# Altium integrated library 数码管.IntLib: 94 symbols
Pins are listed as number, name and electrical type; pins without a type are passive.

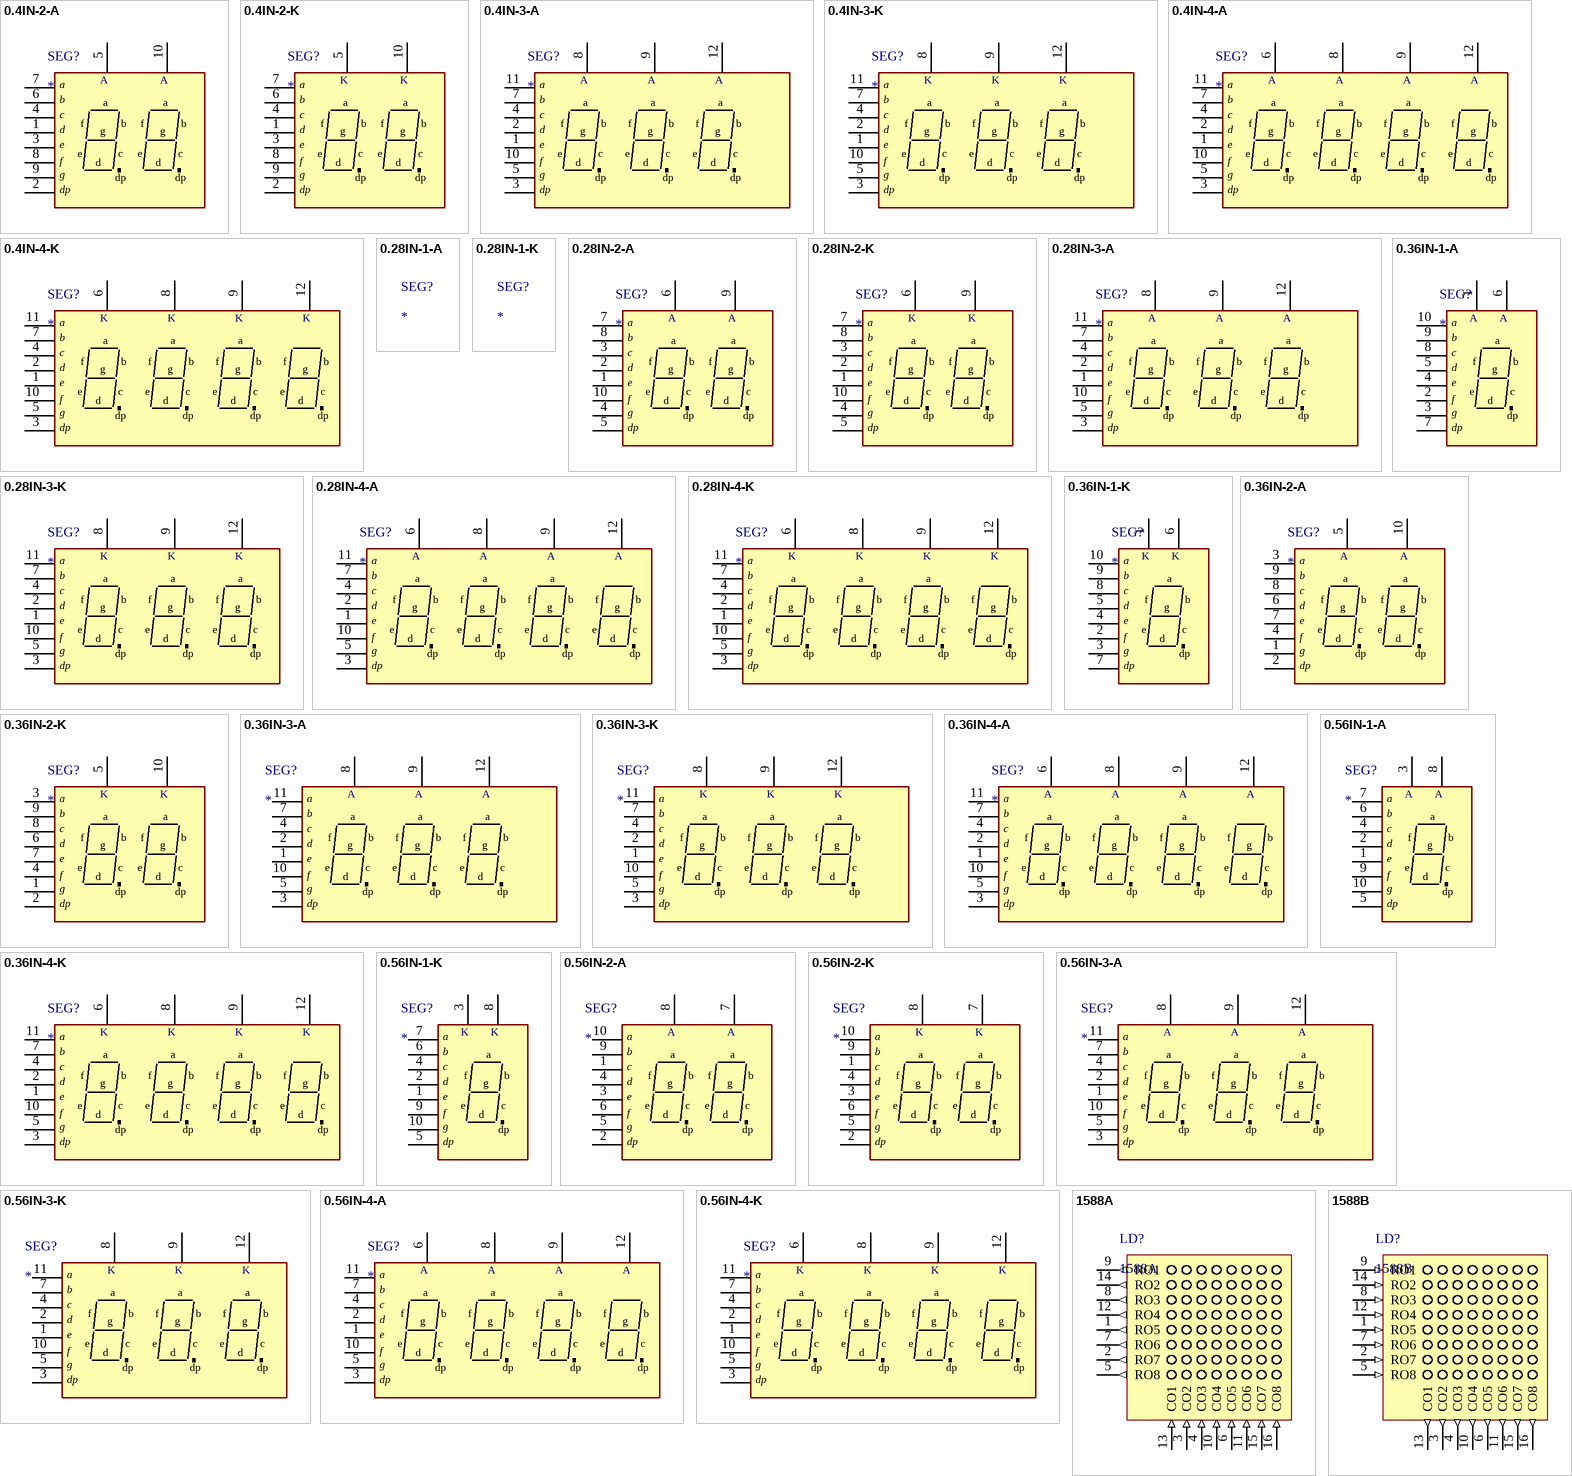
[diagram p0: symbols 0.4IN-2-A to 1588B]

## 0.4IN-2-A
designator SEG?
2位0.4寸共阳数码管
footprint 0.4IN-2P
pins: 1, 2, 3, 4, 5, 6, 7, 8, 9, 10
text: A; a; b; c; f; d; g; e; dp

## 0.4IN-2-K
designator SEG?
2位0.4寸共阴数码管
footprint 0.4IN-2P
pins: 1, 2, 3, 4, 5, 6, 7, 8, 9, 10
text: K; a; b; c; f; d; g; e; dp

## 0.4IN-3-A
designator SEG?
3位0.4寸共阳数码管
footprint 0.4IN-3P
footprint Model Name (Model Description)
pins: 1, 2, 3, 4, 5, 7, 8, 9, 10, 11, 12
text: A; a; b; c; f; d; g; e; dp

## 0.4IN-3-K
designator SEG?
3位0.4寸共阴数码管
footprint 0.4IN-3P
pins: 1, 2, 3, 4, 5, 7, 8, 9, 10, 11, 12
text: K; a; b; c; f; d; g; e; dp

## 0.4IN-4-A
designator SEG?
4位0.4寸共阳数码管
footprint 0.4IN-4P
pins: 1, 2, 3, 4, 5, 6, 7, 8, 9, 10, 11, 12
text: A; a; b; c; f; d; g; e; dp

## 0.4IN-4-K
designator SEG?
4位0.4寸共阴数码管
footprint 0.4IN-4P
pins: 1, 2, 3, 4, 5, 6, 7, 8, 9, 10, 11, 12
text: K; a; b; c; f; d; g; e; dp

## 0.28IN-1-A
designator SEG?
1位0.28寸共阳数码管

## 0.28IN-1-K
designator SEG?
1位0.28寸共阴数码管

## 0.28IN-2-A
designator SEG?
2位0.28寸共阳数码管
footprint Model Name (Model Description)
pins: 1, 2, 3, 4, 5, 6, 7, 8, 9, 10
text: A; a; b; c; f; d; g; e; dp

## 0.28IN-2-K
designator SEG?
2位0.28寸共阴数码管
pins: 1, 2, 3, 4, 5, 6, 7, 8, 9, 10
text: K; a; b; c; f; d; g; e; dp

## 0.28IN-3-A
designator SEG?
3位0.28寸共阳数码管
pins: 1, 2, 3, 4, 5, 7, 8, 9, 10, 11, 12
text: A; a; b; c; f; d; g; e; dp

## 0.28IN-3-K
designator SEG?
3位0.28寸共阴数码管
pins: 1, 2, 3, 4, 5, 7, 8, 9, 10, 11, 12
text: K; a; b; c; f; d; g; e; dp

## 0.28IN-4-A
designator SEG?
4位0.28寸共阳数码管
pins: 1, 2, 3, 4, 5, 6, 7, 8, 9, 10, 11, 12
text: A; a; b; c; f; d; g; e; dp

## 0.28IN-4-K
designator SEG?
4位0.28寸共阴数码管
pins: 1, 2, 3, 4, 5, 6, 7, 8, 9, 10, 11, 12
text: K; a; b; c; f; d; g; e; dp

## 0.36IN-1-A
designator SEG?
1位0.36寸共阳数码管
footprint 0.36IN-1P
pins: 1, 2, 3, 4, 5, 6, 7, 8, 9, 10
text: A; a; b; c; f; d; g; e; dp

## 0.36IN-1-K
designator SEG?
1位0.36寸共阴数码管
footprint 0.36IN-1P
pins: 1, 2, 3, 4, 5, 6, 7, 8, 9, 10
text: K; a; b; c; f; d; g; e; dp

## 0.36IN-2-A
designator SEG?
2位0.36寸共阳数码管
footprint 0.36IN-2P
pins: 1, 2, 3, 4, 5, 6, 7, 8, 9, 10
text: A; a; b; c; f; d; g; e; dp

## 0.36IN-2-K
designator SEG?
2位0.36寸共阴数码管
footprint 0.36IN-2P
pins: 1, 2, 3, 4, 5, 6, 7, 8, 9, 10
text: K; a; b; c; f; d; g; e; dp

## 0.36IN-3-A
designator SEG?
3位0.36寸共阳数码管
footprint 0.36IN-3P
pins: 1, 2, 3, 4, 5, 7, 8, 9, 10, 11, 12
text: A; a; b; c; f; d; g; e; dp

## 0.36IN-3-K
designator SEG?
3位0.36寸共阴数码管
footprint 0.36IN-3P
pins: 1, 2, 3, 4, 5, 7, 8, 9, 10, 11, 12
text: K; a; b; c; f; d; g; e; dp

## 0.36IN-4-A
designator SEG?
4位0.36寸共阳数码管
footprint 0.36IN-4P
pins: 1, 2, 3, 4, 5, 6, 7, 8, 9, 10, 11, 12
text: A; a; b; c; f; d; g; e; dp

## 0.36IN-4-K
designator SEG?
4位0.36寸共阴数码管
footprint 0.36IN-4P
pins: 1, 2, 3, 4, 5, 6, 7, 8, 9, 10, 11, 12
text: K; a; b; c; f; d; g; e; dp

## 0.56IN-1-A
designator SEG?
1位0.56寸共阳数码管
footprint 0.56IN-1P
pins: 1, 2, 3 VCC, 4, 5, 6, 7, 8, 9, 10
text: A; a; b; c; f; d; g; e; dp

## 0.56IN-1-K
designator SEG?
1位0.56寸共阴数码管
footprint 0.56IN-1P
pins: 1, 2, 3 VCC, 4, 5, 6, 7, 8, 9, 10
text: K; a; b; c; f; d; g; e; dp

## 0.56IN-2-A
designator SEG?
2位0.56寸共阳数码管
footprint 0.56IN-2P
pins: 1, 2, 3, 4, 5, 6, 7, 8, 9, 10
text: A; a; b; c; f; d; g; e; dp

## 0.56IN-2-K
designator SEG?
2位0.56寸共阴数码管
footprint 0.56IN-2P
pins: 1, 2, 3, 4, 5, 6, 7, 8, 9, 10
text: K; a; b; c; f; d; g; e; dp

## 0.56IN-3-A
designator SEG?
3位0.56寸共阳数码管
footprint 0.56IN-3P
pins: 1, 2, 3, 4, 5, 7, 8, 9, 10, 11, 12
text: A; a; b; c; f; d; g; e; dp

## 0.56IN-3-K
designator SEG?
3位0.56寸共阴数码管
footprint 0.56IN-3P
pins: 1, 2, 3, 4, 5, 7, 8, 9, 10, 11, 12
text: K; a; b; c; f; d; g; e; dp

## 0.56IN-4-A
designator SEG?
4位0.56寸共阳数码管
footprint 0.56IN-4P
pins: 1, 2, 3, 4, 5, 6, 7, 8, 9, 10, 11, 12
text: A; a; b; c; f; d; g; e; dp

## 0.56IN-4-K
designator SEG?
4位0.56寸共阴数码管
footprint 0.56IN-4P
pins: 1, 2, 3, 4, 5, 6, 7, 8, 9, 10, 11, 12
text: K; a; b; c; f; d; g; e; dp

## 1588A
designator LD?
共阴单色LED8*8点阵屏; 版权归属: 源创客; BOM名称: 共阴单色LED8*8点阵屏; 学习资源: www.ooocke.com
footprint LED 8*8-38 (单色8*8点阵，38mm*38mm)
pins: 1 RO5 (out), 2 RO7 (out), 3 CO2 (in), 4 CO3 (in), 5 RO8 (out), 6 CO5 (in), 7 RO6 (out), 8 RO3 (out), 9 RO1 (out), 10 CO4 (in), 11 CO6 (in), 12 RO4 (out), 13 CO1 (in), 14 RO2 (out), 15 CO7 (in), 16 CO8 (in)

## 1588B
designator LD?
共阳单色LED8*8点阵屏; 版权归属: 源创客; BOM名称: 共阳单色LED8*8点阵屏; 学习资源: www.ooocke.com
footprint LED 8*8-38 (单色8*8点阵，38mm*38mm)
pins: 1 RO5 (in), 2 RO7 (in), 3 CO2 (out), 4 CO3 (out), 5 RO8 (in), 6 CO5 (out), 7 RO6 (in), 8 RO3 (in), 9 RO1 (in), 10 CO4 (out), 11 CO6 (out), 12 RO4 (in), 13 CO1 (out), 14 RO2 (in), 15 CO7 (out), 16 CO8 (out)

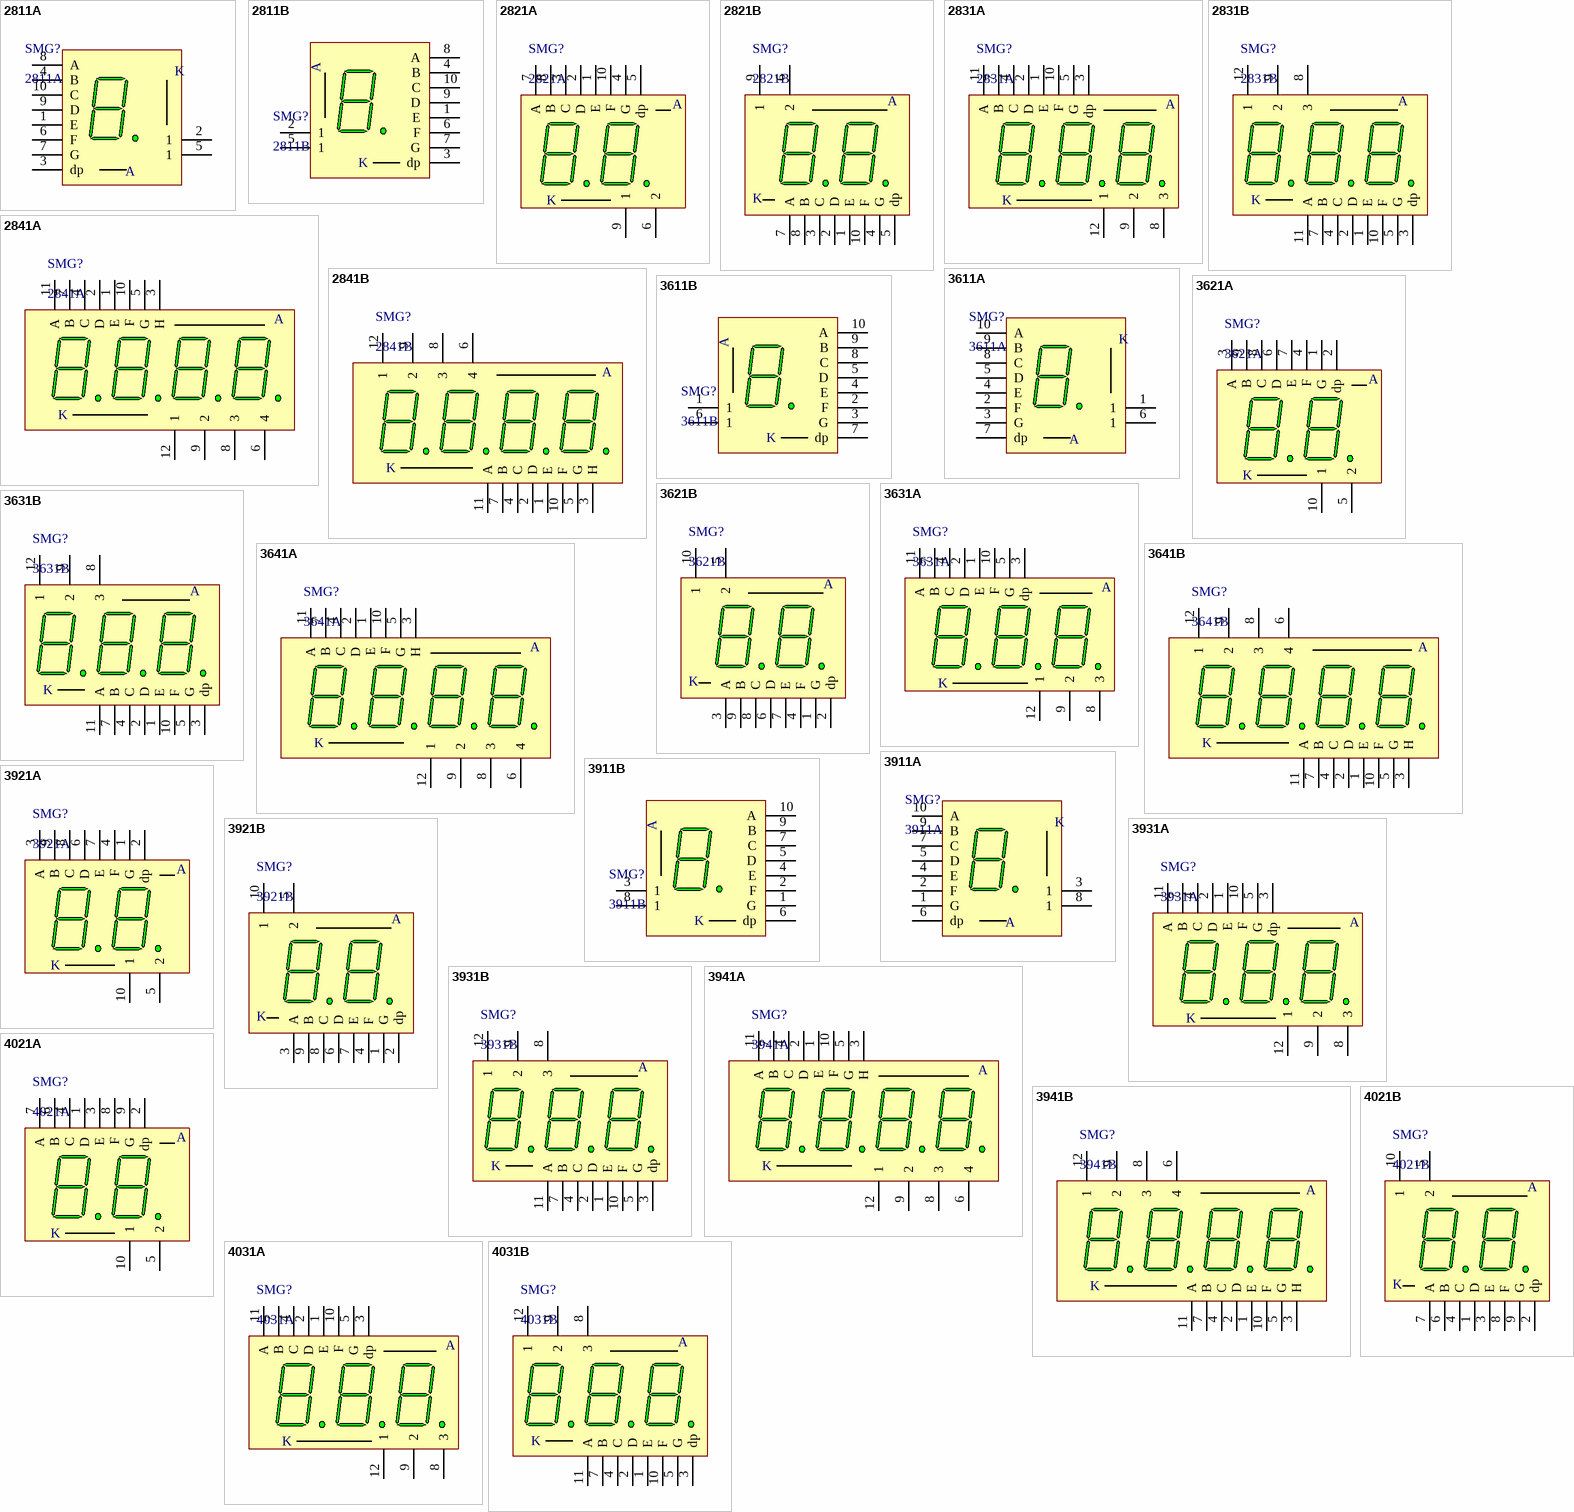
[diagram p1: symbols 2811A to 4031B]

## 2811A
designator SMG?
0.28寸1位共阴数码管; 版权归属: 源创客; BOM名称: 0.28寸1位共阴; 学习资源: www.ooocke.com
footprint SMG 0.28-1P_A (7.4*10*6mm(长宽高))
pins: 1 E "Anode", 2 1 "Cathode", 3 dp "Anode", 4 B "Anode", 5 1 "Anode", 6 F "Anode", 7 G "Anode", 8 A "Anode", 9 D "Anode", 10 C "Anode"
text: K

## 2811B
designator SMG?
0.28寸1位共阳数码管; 版权归属: 源创客; BOM名称: 0.28寸1位共阳; 学习资源: www.ooocke.com
footprint SMG 0.28-1P_A (7.4*10*6mm(长宽高))
pins: 1 E "Anode", 2 1 "Cathode", 3 dp "Anode", 4 B "Anode", 5 1 "Anode", 6 F "Anode", 7 G "Anode", 8 A "Anode", 9 D "Anode", 10 C "Anode"
text: K

## 2821A
designator SMG?
0.28寸2位共阴数码管; 版权归属: 源创客; BOM名称: 0.28寸2位共阴; 学习资源: www.ooocke.com
footprint SMG 0.28-2P (15*10*6mm(长宽厚))
pins: 1 E "Anode", 2 D "Anode", 3 C "Anode", 4 G "Anode", 5 dp "Anode", 6 2 "Anode", 7 A "Anode", 8 B "Anode", 9 1 "Cathode", 10 F "Anode"
text: K

## 2821B
designator SMG?
0.28寸2位共阳数码管; 版权归属: 源创客; BOM名称: 0.28寸2位共阳; 学习资源: www.ooocke.com
footprint SMG 0.28-2P (15*10*6mm(长宽厚))
pins: 1 E "Anode", 2 D "Anode", 3 C "Anode", 4 G "Anode", 5 dp "Anode", 6 2 "Anode", 7 A "Anode", 8 B "Anode", 9 1 "Cathode", 10 F "Anode"
text: K

## 2831A
designator SMG?
0.28寸3位共阴数码管; 版权归属: 源创客; BOM名称: 0.28寸3位共阴; 学习资源: www.ooocke.com
footprint SMG 0.28-3P (22.58*10*6mm(长宽厚))
pins: 1 E "Anode", 2 D "Anode", 3 dp "Anode", 4 C "Anode", 5 G "Anode", 7 B "Anode", 8 3 "Anode", 9 2 "Anode", 10 F "Anode", 11 A "Anode", 12 1 "Cathode"
text: K

## 2831B
designator SMG?
0.28寸3位共阳数码管; 版权归属: 源创客; BOM名称: 0.28寸3位共阳; 学习资源: www.ooocke.com
footprint SMG 0.28-3P (22.58*10*6mm(长宽厚))
pins: 1 E "Anode", 2 D "Anode", 3 dp "Anode", 4 C "Anode", 5 G "Anode", 7 B "Anode", 8 3 "Anode", 9 2 "Anode", 10 F "Anode", 11 A "Anode", 12 1 "Cathode"
text: K

## 2841A
designator SMG?
0.28寸4位共阴数码管; 版权归属: 源创客; BOM名称: 0.28寸4位共阴; 学习资源: www.ooocke.com
footprint SMG 0.28-4P_B (32.2*10*6mm(长宽厚))
pins: 1 E "Anode", 2 D "Anode", 3 H "Anode", 4 C "Anode", 5 G "Anode", 6 4 "Cathode", 7 B "Anode", 8 3 "Anode", 9 2 "Anode", 10 F "Anode", 11 A "Anode", 12 1 "Cathode"
text: K

## 2841B
designator SMG?
0.28寸4位共阳数码管; 版权归属: 源创客; BOM名称: 0.28寸4位共阳; 学习资源: www.ooocke.com
footprint SMG 0.28-4P_B (32.2*10*6mm(长宽厚))
pins: 1 E "Anode", 2 D "Anode", 3 H "Anode", 4 C "Anode", 5 G "Anode", 6 4 "Cathode", 7 B "Anode", 8 3 "Anode", 9 2 "Anode", 10 F "Anode", 11 A "Anode", 12 1 "Cathode"
text: K

## 3611A
designator SMG?
0.36寸1位共阴数码管; 版权归属: 源创客; BOM名称: 0.36寸1位共阴; 学习资源: www.ooocke.com
footprint SMG 0.36-1P (7.5*14*8.5mm(长宽厚))
pins: 1 "Cathode", 2 F "Anode", 3 G "Anode", 4 E "Anode", 5 D "Anode", 6 1 "Anode", 7 dp "Anode", 8 C "Anode", 9 B "Anode", 10 A "Anode"
text: K

## 3611B
designator SMG?
0.36寸1位共阳数码管; 版权归属: 源创客; BOM名称: 0.36寸1位共阳; 学习资源: www.ooocke.com
footprint SMG 0.36-1P (7.5*14*8.5mm(长宽厚))
pins: 1 "Cathode", 2 F "Anode", 3 G "Anode", 4 E "Anode", 5 D "Anode", 6 1 "Anode", 7 dp "Anode", 8 C "Anode", 9 B "Anode", 10 A "Anode"
text: K

## 3621A
designator SMG?
0.36寸2位共阴数码管; 版权归属: 源创客; BOM名称: 0.36寸2位共阴; 学习资源: www.ooocke.com
footprint SMG 0.36-2P (15*14*7.2mm(长宽厚))
pins: 1 G "Anode", 2 dp "Anode", 3 A "Anode", 4 F "Anode", 5 2 "Anode", 6 D "Anode", 7 E "Anode", 8 C "Anode", 9 B "Anode", 10 1 "Cathode"
text: K

## 3621B
designator SMG?
0.36寸2位共阳数码管; 版权归属: 源创客; BOM名称: 0.36寸2位共阳; 学习资源: www.ooocke.com
footprint SMG 0.36-2P (15*14*7.2mm(长宽厚))
pins: 1 G "Anode", 2 dp "Anode", 3 A "Anode", 4 F "Anode", 5 2 "Anode", 6 D "Anode", 7 E "Anode", 8 C "Anode", 9 B "Anode", 10 1 "Cathode"
text: K

## 3631A
designator SMG?
0.36寸3位共阴数码管; 版权归属: 源创客; BOM名称: 0.36寸3位共阴; 学习资源: www.ooocke.com
footprint SMG 0.36-3P (3位0.36寸数码管，22.5*14mm)
pins: 1 E "Anode", 2 D "Anode", 3 dp "Anode", 4 C "Anode", 5 G "Anode", 7 B "Anode", 8 3 "Anode", 9 2 "Anode", 10 F "Anode", 11 A "Anode", 12 1 "Cathode"
text: K

## 3631B
designator SMG?
0.36寸3位共阳数码管; 版权归属: 源创客; BOM名称: 0.36寸3位共阳; 学习资源: www.ooocke.com
footprint SMG 0.36-3P (22.5*14*7.2mm(长宽厚))
pins: 1 E "Anode", 2 D "Anode", 3 dp "Anode", 4 C "Anode", 5 G "Anode", 7 B "Anode", 8 3 "Anode", 9 2 "Anode", 10 F "Anode", 11 A "Anode", 12 1 "Cathode"
text: K

## 3641A
designator SMG?
0.36寸4位共阴数码管; 版权归属: 源创客; BOM名称: 0.36寸4位共阴; 学习资源: www.ooocke.com
footprint SMG 0.36-4P (4位0.36寸数码管，30*14*7.2mm)
pins: 1 E "Anode", 2 D "Anode", 3 H "Anode", 4 C "Anode", 5 G "Anode", 6 4 "Cathode", 7 B "Anode", 8 3 "Anode", 9 2 "Anode", 10 F "Anode", 11 A "Anode", 12 1 "Cathode"
text: K

## 3641B
designator SMG?
0.36寸4位共阳数码管; 版权归属: 源创客; BOM名称: 0.36寸4位共阳; 学习资源: www.ooocke.com
footprint SMG 0.36-4P (4位0.36寸数码管，30*14*7.2mm)
pins: 1 E "Anode", 2 D "Anode", 3 H "Anode", 4 C "Anode", 5 G "Anode", 6 4 "Cathode", 7 B "Anode", 8 3 "Anode", 9 2 "Anode", 10 F "Anode", 11 A "Anode", 12 1 "Cathode"
text: K

## 3911A
designator SMG?
0.39寸1位共阴数码管; 版权归属: 源创客; BOM名称: 0.39寸1位共阴; 学习资源: www.ooocke.com
footprint SMG 0.39-1P (0.39寸数码管，13*10mm)
pins: 1 G "Anode", 2 F "Anode", 3 1 "Cathode", 4 E "Anode", 5 D "Anode", 6 dp "Anode", 7 C "Anode", 8 1 "Anode", 9 B "Anode", 10 A "Anode"
text: K

## 3911B
designator SMG?
0.39寸1位共阳数码管; 版权归属: 源创客; BOM名称: 0.39寸1位共阳; 学习资源: www.ooocke.com
footprint SMG 0.39-1P (0.39寸数码管，13*10mm)
pins: 1 G "Anode", 2 F "Anode", 3 1 "Cathode", 4 E "Anode", 5 D "Anode", 6 dp "Anode", 7 C "Anode", 8 1 "Anode", 9 B "Anode", 10 A "Anode"
text: K

## 3921A
designator SMG?
0.39寸2位共阴数码管; 版权归属: 源创客; BOM名称: 0.39寸2位共阴; 学习资源: www.ooocke.com
footprint SMG 0.36-2P (15*14*7.2mm(长宽厚))
pins: 1 G "Anode", 2 dp "Anode", 3 A "Anode", 4 F "Anode", 5 2 "Anode", 6 D "Anode", 7 E "Anode", 8 C "Anode", 9 B "Anode", 10 1 "Cathode"
text: K

## 3921B
designator SMG?
0.39寸2位共阳数码管; 版权归属: 源创客; BOM名称: 0.39寸2位共阳; 学习资源: www.ooocke.com
footprint SMG 0.36-2P (15*14*7.2mm(长宽厚))
pins: 1 G "Anode", 2 dp "Anode", 3 A "Anode", 4 F "Anode", 5 2 "Anode", 6 D "Anode", 7 E "Anode", 8 C "Anode", 9 B "Anode", 10 1 "Cathode"
text: K

## 3931A
designator SMG?
0.39寸3位共阴数码管; 版权归属: 源创客; BOM名称: 0.39寸3位共阴; 学习资源: www.ooocke.com
footprint SMG 0.39-3P (30.2*13*7mm(长宽厚))
pins: 1 E "Anode", 2 D "Anode", 3 dp "Anode", 4 C "Anode", 5 G "Anode", 7 B "Anode", 8 3 "Anode", 9 2 "Anode", 10 F "Anode", 11 A "Anode", 12 1 "Cathode"
text: K

## 3931B
designator SMG?
0.39寸3位共阳数码管; 版权归属: 源创客; BOM名称: 0.39寸3位共阳; 学习资源: www.ooocke.com
footprint SMG 0.39-3P (30.2*13*7mm(长宽厚))
pins: 1 E "Anode", 2 D "Anode", 3 dp "Anode", 4 C "Anode", 5 G "Anode", 7 B "Anode", 8 3 "Anode", 9 2 "Anode", 10 F "Anode", 11 A "Anode", 12 1 "Cathode"
text: K

## 3941A
designator SMG?
0.36寸4位共阴数码管; 版权归属: 源创客; BOM名称: 0.36寸4位共阴; 学习资源: www.ooocke.com
footprint SMG 0.39-4P_A (40.2*13*7mm(长宽厚))
pins: 1 E "Anode", 2 D "Anode", 3 H "Anode", 4 C "Anode", 5 G "Anode", 6 4 "Cathode", 7 B "Anode", 8 3 "Anode", 9 2 "Anode", 10 F "Anode", 11 A "Anode", 12 1 "Cathode"
text: K

## 3941B
designator SMG?
0.36寸4位共阳数码管; 版权归属: 源创客; BOM名称: 0.36寸4位共阳; 学习资源: www.ooocke.com
footprint SMG 0.39-4P_A (40.2*13*7mm(长宽厚))
pins: 1 E "Anode", 2 D "Anode", 3 H "Anode", 4 C "Anode", 5 G "Anode", 6 4 "Cathode", 7 B "Anode", 8 3 "Anode", 9 2 "Anode", 10 F "Anode", 11 A "Anode", 12 1 "Cathode"
text: K

## 4021A
designator SMG?
0.4寸2位共阴数码管; 版权归属: 源创客; BOM名称: 0.4寸2位共阴; 学习资源: www.ooocke.com
footprint SMG 0.4-2P (20.1*16*7mm(长宽厚))
pins: 1 D "Anode", 2 dp "Anode", 3 E "Anode", 4 C "Anode", 5 2 "Anode", 6 B "Anode", 7 A "Anode", 8 F "Anode", 9 G "Anode", 10 1 "Cathode"
text: K

## 4021B
designator SMG?
0.4寸2位共阳数码管; 版权归属: 源创客; BOM名称: 0.4寸2位共阳; 学习资源: www.ooocke.com
footprint SMG 0.4-2P (20.1*16*7mm(长宽厚))
pins: 1 D "Anode", 2 dp "Anode", 3 E "Anode", 4 C "Anode", 5 2 "Anode", 6 B "Anode", 7 A "Anode", 8 F "Anode", 9 G "Anode", 10 1 "Cathode"
text: K

## 4031A
designator SMG?
0.4寸3位共阴数码管; 版权归属: 源创客; BOM名称: 0.4寸3位共阴; 学习资源: www.ooocke.com
footprint SMG 0.4-3P (30.1*16*7mm(长宽厚))
pins: 1 E "Anode", 2 D "Anode", 3 dp "Anode", 4 C "Anode", 5 G "Anode", 7 B "Anode", 8 3 "Anode", 9 2 "Anode", 10 F "Anode", 11 A "Anode", 12 1 "Cathode"
text: K

## 4031B
designator SMG?
0.4寸3位共阳数码管; 版权归属: 源创客; BOM名称: 0.4寸3位共阳; 学习资源: www.ooocke.com
footprint SMG 0.4-3P (30.1*16*7mm(长宽厚))
pins: 1 E "Anode", 2 D "Anode", 3 dp "Anode", 4 C "Anode", 5 G "Anode", 7 B "Anode", 8 3 "Anode", 9 2 "Anode", 10 F "Anode", 11 A "Anode", 12 1 "Cathode"
text: K

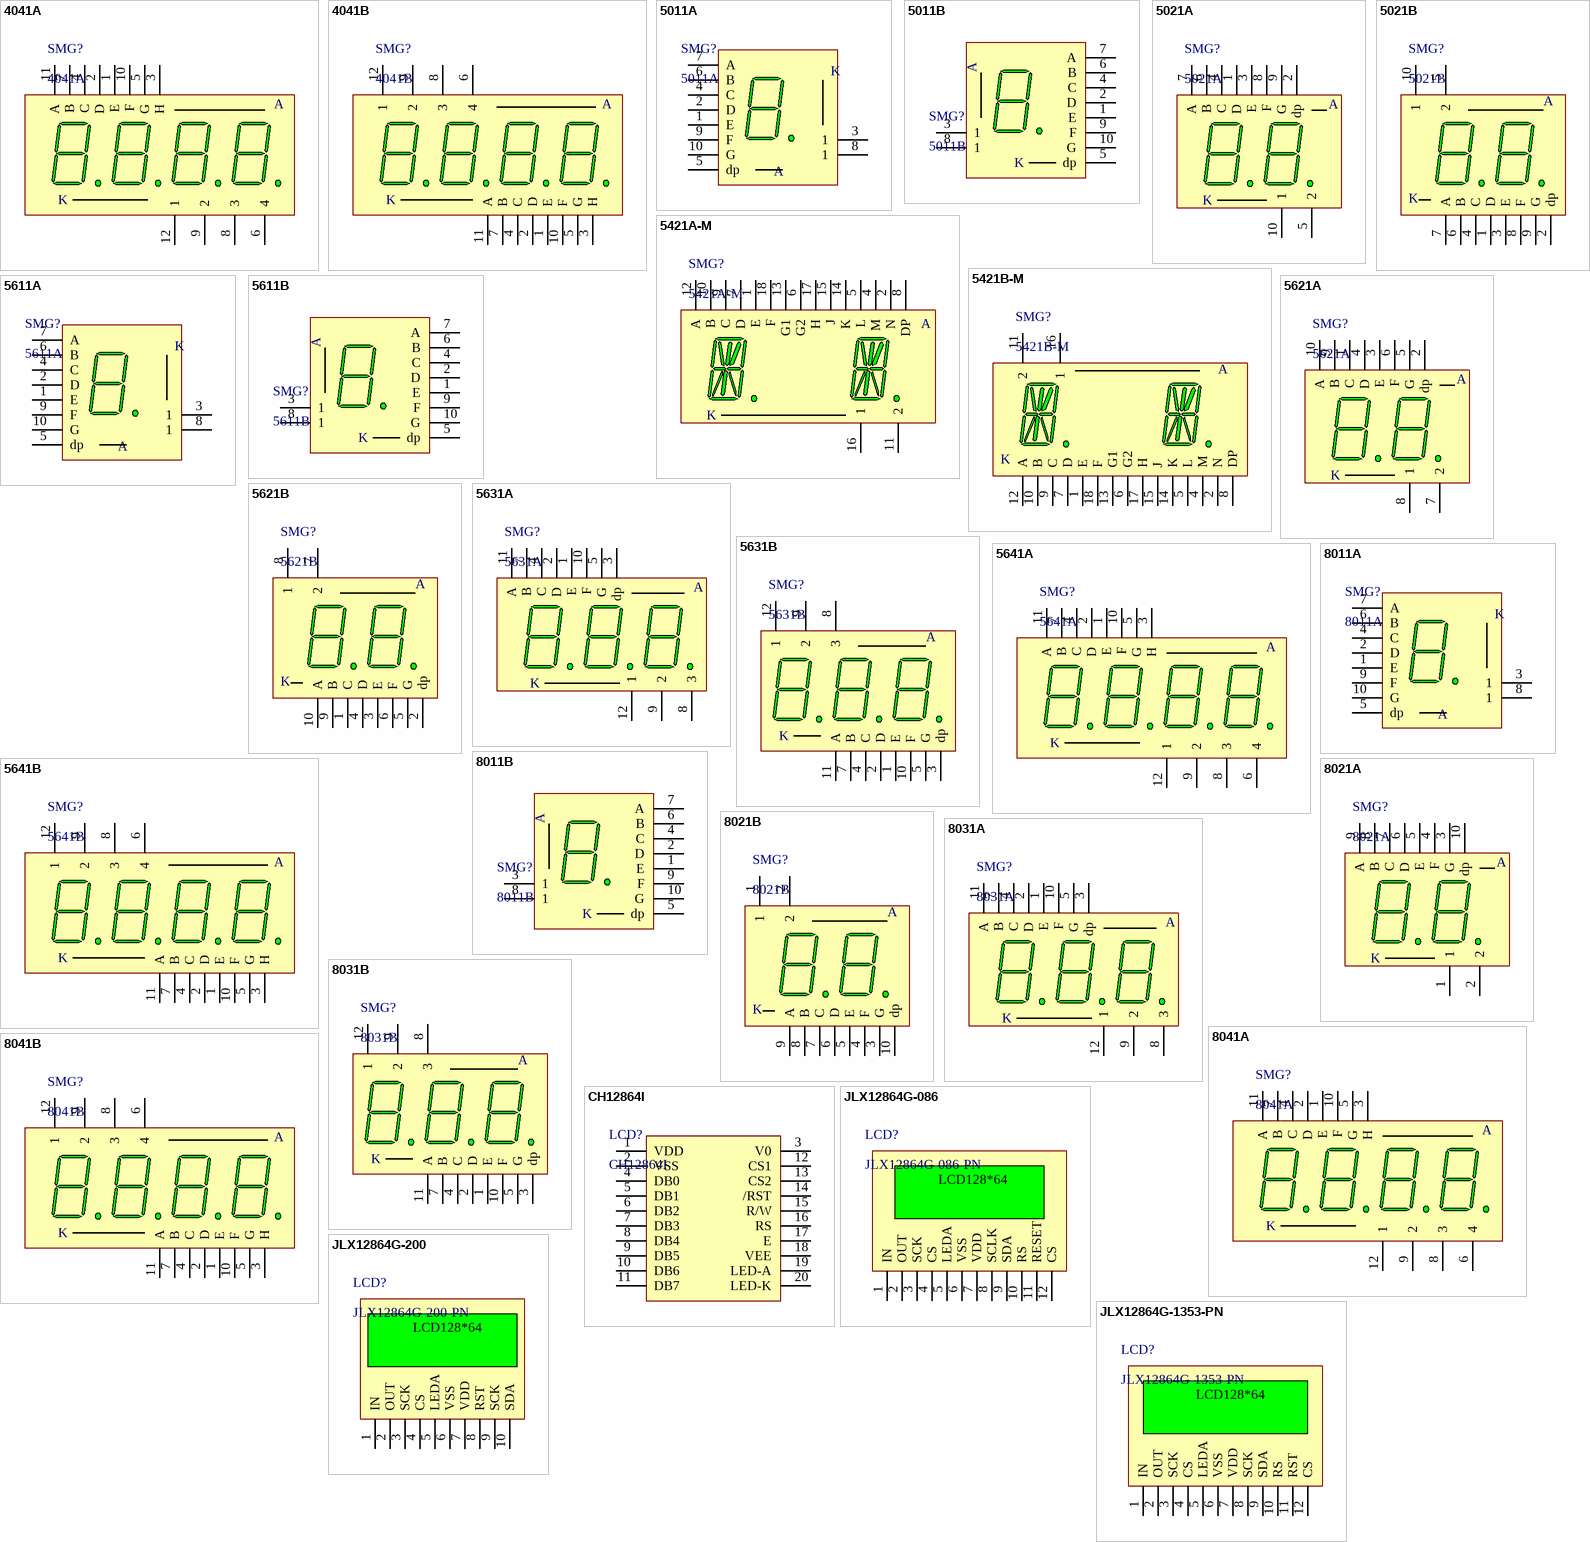
[diagram p2: symbols 4041A to JLX12864G-1353-PN]

## 4041A
designator SMG?
0.4寸4位共阴数码管; 版权归属: 源创客; BOM名称: 0.4寸4位共阴; 学习资源: www.ooocke.com
footprint SMG 0.4-4P (40.5*16*7mm(长宽厚))
pins: 1 E "Anode", 2 D "Anode", 3 H "Anode", 4 C "Anode", 5 G "Anode", 6 4 "Cathode", 7 B "Anode", 8 3 "Anode", 9 2 "Anode", 10 F "Anode", 11 A "Anode", 12 1 "Cathode"
text: K

## 4041B
designator SMG?
0.4寸4位共阳数码管; 版权归属: 源创客; BOM名称: 0.4寸4位共阳; 学习资源: www.ooocke.com
footprint SMG 0.4-4P (40.5*16*7mm(长宽厚))
pins: 1 E "Anode", 2 D "Anode", 3 H "Anode", 4 C "Anode", 5 G "Anode", 6 4 "Cathode", 7 B "Anode", 8 3 "Anode", 9 2 "Anode", 10 F "Anode", 11 A "Anode", 12 1 "Cathode"
text: K

## 5011A
designator SMG?
0.5寸1位共阴数码管; 版权归属: 源创客; BOM名称: 0.5寸1位共阴; 学习资源: www.ooocke.com
footprint SMG 0.5-1P (0.5寸数码管，19*12.6mm)
pins: 1 E "Anode", 2 D "Anode", 3 1 "Cathode", 4 C "Anode", 5 dp "Anode", 6 B "Anode", 7 A "Anode", 8 1 "Anode", 9 F "Anode", 10 G "Anode"
text: K

## 5011B
designator SMG?
0.5寸1位共阳数码管; 版权归属: 源创客; BOM名称: 0.5寸1位共阳; 学习资源: www.ooocke.com
footprint SMG 0.5-1P (0.5寸数码管，19*12.6mm)
pins: 1 E "Anode", 2 D "Anode", 3 1 "Cathode", 4 C "Anode", 5 dp "Anode", 6 B "Anode", 7 A "Anode", 8 1 "Anode", 9 F "Anode", 10 G "Anode"
text: K

## 5021A
designator SMG?
0.5寸2位共阴数码管; 版权归属: 源创客; BOM名称: 0.5寸2位共阴; 学习资源: www.ooocke.com
footprint SMG 0.5-2P (25*19*8mm(长宽厚))
pins: 1 D "Anode", 2 dp "Anode", 3 E "Anode", 4 C "Anode", 5 2 "Anode", 6 B "Anode", 7 A "Anode", 8 F "Anode", 9 G "Anode", 10 1 "Cathode"
text: K

## 5021B
designator SMG?
0.5寸2位共阳数码管; 版权归属: 源创客; BOM名称: 0.5寸2位共阳; 学习资源: www.ooocke.com
footprint SMG 0.5-2P (25*19*8mm(长宽厚))
pins: 1 D "Anode", 2 dp "Anode", 3 E "Anode", 4 C "Anode", 5 2 "Anode", 6 B "Anode", 7 A "Anode", 8 F "Anode", 9 G "Anode", 10 1 "Cathode"
text: K

## 5421A-M
designator SMG?
0.54寸米字2位共阴数码管; 版权归属: 源创客; BOM名称: 0.54寸米字2位共阴数码管; 学习资源: www.ooocke.com
footprint SMG 0.54M-2P (25*21.2*8mm(长宽厚))
pins: 1 E "Anode", 2 N "Anode", 4 M "Anode", 5 L "Anode", 6 G2 "Anode", 7 D "Anode", 8 DP "Anode", 9 C "Anode", 10 B "Anode", 11 2 "Anode", 12 A "Anode", 13 G1 "Anode", 14 K "Anode", 15 J "Anode", 16 1 "Cathode", 17 H "Anode", 18 F "Anode"

## 5421B-M
designator SMG?
0.54寸米字2位共阳数码管; 版权归属: 源创客; BOM名称: 0.54寸米字2位共阳数码管; 学习资源: www.ooocke.com
footprint SMG 0.54M-2P (25*21.2*8mm(长宽厚))
pins: 1 E "Anode", 2 N "Anode", 4 M "Anode", 5 L "Anode", 6 G2 "Anode", 7 D "Anode", 8 DP "Anode", 9 C "Anode", 10 B "Anode", 11 2 "Anode", 12 A "Anode", 13 G1 "Anode", 14 K "Anode", 15 J "Anode", 16 1 "Cathode", 17 H "Anode", 18 F "Anode"

## 5611A
designator SMG?
0.56寸1位共阴数码管; 版权归属: 源创客; BOM名称: 0.56寸1位共阴; 学习资源: www.ooocke.com
footprint SMG 0.56-1P (12.7*19*8mm(长宽厚))
pins: 1 E "Anode", 2 D "Anode", 3 1 "Cathode", 4 C "Anode", 5 dp "Anode", 6 B "Anode", 7 A "Anode", 8 1 "Anode", 9 F "Anode", 10 G "Anode"
text: K

## 5611B
designator SMG?
0.56寸1位共阳数码管; 版权归属: 源创客; BOM名称: 0.56寸1位共阳; 学习资源: www.ooocke.com
footprint SMG 0.56-1P (12.7*19*8mm(长宽厚))
pins: 1 E "Anode", 2 D "Anode", 3 1 "Cathode", 4 C "Anode", 5 dp "Anode", 6 B "Anode", 7 A "Anode", 8 1 "Anode", 9 F "Anode", 10 G "Anode"
text: K

## 5621A
designator SMG?
0.56寸2位共阴数码管; 版权归属: 源创客; BOM名称: 0.56寸2位共阴; 学习资源: www.ooocke.com
footprint SMG 0.56-2P (25*19*8mm(长宽厚))
pins: 1 C "Anode", 2 dp "Anode", 3 E "Anode", 4 D "Anode", 5 G "Anode", 6 F "Anode", 7 2 "Anode", 8 1 "Cathode", 9 B "Anode", 10 A "Anode"
text: K

## 5621B
designator SMG?
0.56寸2位共阳数码管; 版权归属: 源创客; BOM名称: 0.56寸2位共阳; 学习资源: www.ooocke.com
footprint SMG 0.56-2P (25*19*8mm(长宽厚))
pins: 1 C "Anode", 2 dp "Anode", 3 E "Anode", 4 D "Anode", 5 G "Anode", 6 F "Anode", 7 2 "Anode", 8 1 "Cathode", 9 B "Anode", 10 A "Anode"
text: K

## 5631A
designator SMG?
0.56寸3位共阴数码管; 版权归属: 源创客; BOM名称: 0.56寸3位共阴; 学习资源: www.ooocke.com
footprint SMG 0.56-3P (37.6*19*8mm(长宽厚))
pins: 1 E "Anode", 2 D "Anode", 3 dp "Anode", 4 C "Anode", 5 G "Anode", 7 B "Anode", 8 3 "Anode", 9 2 "Anode", 10 F "Anode", 11 A "Anode", 12 1 "Cathode"
text: K

## 5631B
designator SMG?
0.56寸3位共阳数码管; 版权归属: 源创客; BOM名称: 0.56寸3位共阳; 学习资源: www.ooocke.com
footprint SMG 0.56-3P (37.6*19*8mm(长宽厚))
pins: 1 E "Anode", 2 D "Anode", 3 dp "Anode", 4 C "Anode", 5 G "Anode", 7 B "Anode", 8 3 "Anode", 9 2 "Anode", 10 F "Anode", 11 A "Anode", 12 1 "Cathode"
text: K

## 5641A
designator SMG?
0.56寸4位共阴数码管; 版权归属: 源创客; BOM名称: 0.56寸4位共阴; 学习资源: www.ooocke.com
footprint SMG 0.56-4P (4位0.56寸数码管，50.3*19mm)
pins: 1 E "Anode", 2 D "Anode", 3 H "Anode", 4 C "Anode", 5 G "Anode", 6 4 "Cathode", 7 B "Anode", 8 3 "Anode", 9 2 "Anode", 10 F "Anode", 11 A "Anode", 12 1 "Cathode"
text: K

## 5641B
designator SMG?
0.56寸4位共阳数码管; 版权归属: 源创客; BOM名称: 0.56寸4位共阳; 学习资源: www.ooocke.com
footprint SMG 0.56-4P (4位0.56寸数码管，50.3*19mm)
pins: 1 E "Anode", 2 D "Anode", 3 H "Anode", 4 C "Anode", 5 G "Anode", 6 4 "Cathode", 7 B "Anode", 8 3 "Anode", 9 2 "Anode", 10 F "Anode", 11 A "Anode", 12 1 "Cathode"
text: K

## 8011A
designator SMG?
0.8寸1位共阴数码管; 版权归属: 源创客; BOM名称: 0.8寸1位共阴; 学习资源: www.ooocke.com
footprint SMG 0.8-1P (20*27.7*10mm(长宽厚))
pins: 1 E "Anode", 2 D "Anode", 3 1 "Cathode", 4 C "Anode", 5 dp "Anode", 6 B "Anode", 7 A "Anode", 8 1 "Anode", 9 F "Anode", 10 G "Anode"
text: K

## 8011B
designator SMG?
0.8寸1位共阳数码管; 版权归属: 源创客; BOM名称: 0.8寸1位共阳; 学习资源: www.ooocke.com
footprint SMG 0.8-1P (20*27.7*10mm(长宽厚))
pins: 1 E "Anode", 2 D "Anode", 3 1 "Cathode", 4 C "Anode", 5 dp "Anode", 6 B "Anode", 7 A "Anode", 8 1 "Anode", 9 F "Anode", 10 G "Anode"
text: K

## 8021A
designator SMG?
0.8寸2位共阴数码管; 版权归属: 源创客; BOM名称: 0.8寸2位共阴; 学习资源: www.ooocke.com
footprint SMG 0.8-2P (35.8*25.8*10mm(长宽厚))
pins: 1 "Cathode", 2 "Anode", 3 G "Anode", 4 F "Anode", 5 E "Anode", 6 D "Anode", 7 C "Anode", 8 B "Anode", 9 A "Anode", 10 dp "Anode"
text: K

## 8021B
designator SMG?
0.8寸2位共阳数码管; 版权归属: 源创客; BOM名称: 0.8寸2位共阳; 学习资源: www.ooocke.com
footprint SMG 0.8-2P (35.8*25.8*10mm(长宽厚))
pins: 1 "Cathode", 2 "Anode", 3 G "Anode", 4 F "Anode", 5 E "Anode", 6 D "Anode", 7 C "Anode", 8 B "Anode", 9 A "Anode", 10 dp "Anode"
text: K

## 8031A
designator SMG?
0.8寸3位共阴数码管; 版权归属: 源创客; BOM名称: 0.8寸3位共阴; 学习资源: www.ooocke.com
footprint SMG 0.8-3P (59.2*27.7*10mm(长宽厚))
pins: 1 E "Anode", 2 D "Anode", 3 dp "Anode", 4 C "Anode", 5 G "Anode", 7 B "Anode", 8 3 "Anode", 9 2 "Anode", 10 F "Anode", 11 A "Anode", 12 1 "Cathode"
text: K

## 8031B
designator SMG?
0.8寸3位共阳数码管; 版权归属: 源创客; BOM名称: 0.8寸3位共阳; 学习资源: www.ooocke.com
footprint SMG 0.8-3P (59.2*27.7*10mm(长宽厚))
pins: 1 E "Anode", 2 D "Anode", 3 dp "Anode", 4 C "Anode", 5 G "Anode", 7 B "Anode", 8 3 "Anode", 9 2 "Anode", 10 F "Anode", 11 A "Anode", 12 1 "Cathode"
text: K

## 8041A
designator SMG?
0.8寸4位共阴数码管; 版权归属: 源创客; BOM名称: 0.8寸4位共阴; 学习资源: www.ooocke.com
footprint SMG 0.8-4P (59.2*27.7*10mm(长宽厚))
pins: 1 E "Anode", 2 D "Anode", 3 H "Anode", 4 C "Anode", 5 G "Anode", 6 4 "Cathode", 7 B "Anode", 8 3 "Anode", 9 2 "Anode", 10 F "Anode", 11 A "Anode", 12 1 "Cathode"
text: K

## 8041B
designator SMG?
0.8寸4位共阳数码管; 版权归属: 源创客; BOM名称: 0.8寸4位共阳; 学习资源: www.ooocke.com
footprint SMG 0.8-4P (59.2*27.7*10mm(长宽厚))
pins: 1 E "Anode", 2 D "Anode", 3 H "Anode", 4 C "Anode", 5 G "Anode", 6 4 "Cathode", 7 B "Anode", 8 3 "Anode", 9 2 "Anode", 10 F "Anode", 11 A "Anode", 12 1 "Cathode"
text: K

## CH12864I
designator LCD?
12864 点阵屏; 版权归属: 源创客; BOM名称: 12864 点阵屏; 学习资源: www.ooocke.com
footprint LCD-12864A (CH12864I 显示屏，规格：75*52.7mm)
pins: 1 VDD, 2 VSS, 3 V0, 4 DB0, 5 DB1, 6 DB2, 7 DB3, 8 DB4, 9 DB5, 10 DB6, 11 DB7, 12 CS1, 13 CS2, 14 /RST, 15 R/W, 16 RS, 17 E, 18 VEE, 19 LED-A, 20 LED-K

## JLX12864G-086
designator LCD?, comment JLX12864G-086-PN
12864 点阵屏; 版权归属: 源创客; BOM名称: 12864 点阵屏; 学习资源: www.ooocke.com
footprint JLX12864G-086 (长：43.5mm，宽：40.8mm，高：4.5mm)
pins: 1 IN, 2 OUT, 3 SCK, 4 CS, 5 LEDA, 6 VSS, 7 VDD, 8 SCLK, 9 SDA, 10 RS, 11 RESET, 12 CS
text: LCD128*64

## JLX12864G-200
designator LCD?, comment JLX12864G-200-PN
12864 点阵屏; 版权归属: 源创客; BOM名称: 12864 点阵屏; 学习资源: www.ooocke.com
footprint JLX12864G-200 (长：71.4mm，宽：57.2mm，高：9.4mm)
pins: 1 IN, 2 OUT, 3 SCK, 4 CS, 5 LEDA, 6 VSS, 7 VDD, 8 RST, 9 SCK, 10 SDA
text: LCD128*64

## JLX12864G-1353-PN
designator LCD?
12864 点阵屏; 版权归属: 源创客; BOM名称: 12864 点阵屏; 学习资源: www.ooocke.com
footprint JLX12864G-1353 (29.9mm*26.17mm)
pins: 1 IN, 2 OUT, 3 SCK, 4 CS, 5 LEDA, 6 VSS, 7 VDD, 8 SCK, 9 SDA, 10 RS, 11 RST, 12 CS
text: LCD128*64

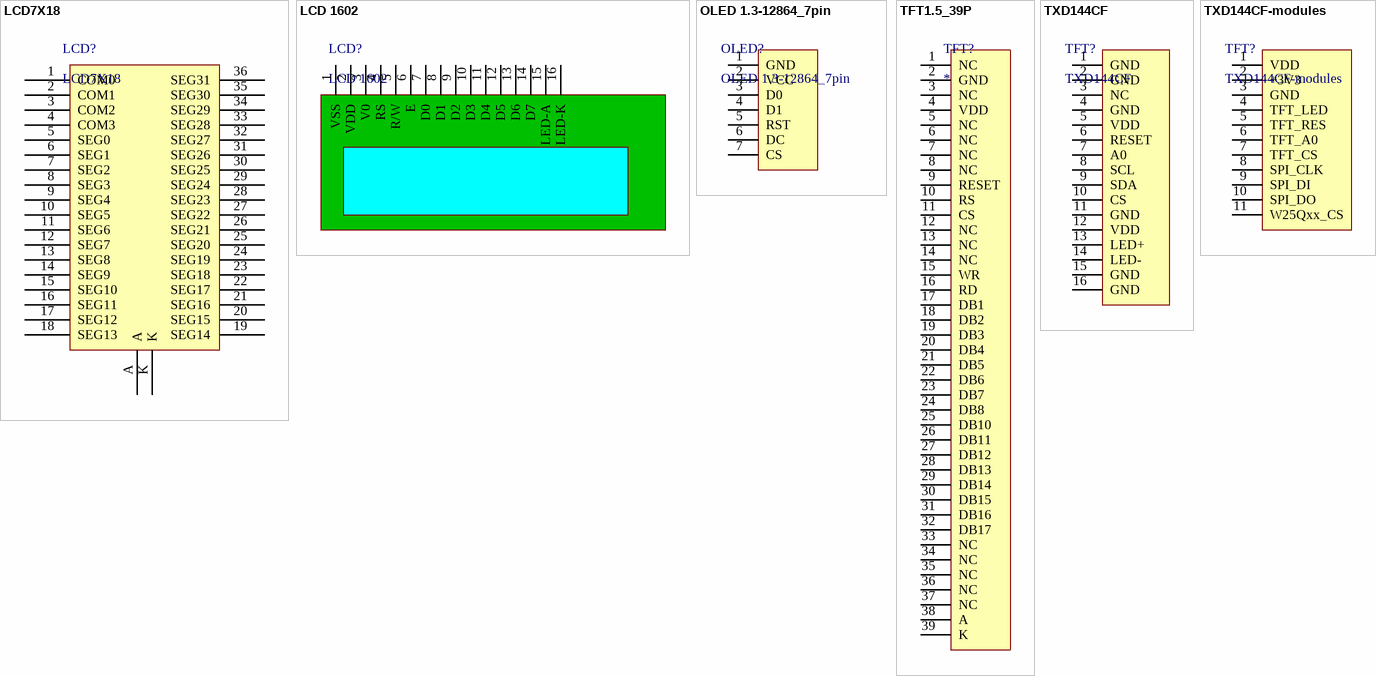
[diagram p3: symbols LCD7X18 to TXD144CF-modules]

## LCD7X18
designator LCD?
LCD7X18数码屏带背光; 版权归属: 源创客; BOM名称: LCD7X18数码屏带背光; 学习资源: www.ooocke.com
footprint LCD7X18 (定制型带背光液晶屏)
pins: 1 COM0, 2 COM1, 3 COM2, 4 COM3, 5 SEG0, 6 SEG1, 7 SEG2, 8 SEG3, 9 SEG4, 10 SEG5, 11 SEG6, 12 SEG7, 13 SEG8, 14 SEG9, 15 SEG10, 16 SEG11, 17 SEG12, 18 SEG13, 19 SEG14, 20 SEG15, 21 SEG16, 22 SEG17, 23 SEG18, 24 SEG19, 25 SEG20, 26 SEG21, 27 SEG22, 28 SEG23, 29 SEG24, 30 SEG25, 31 SEG26, 32 SEG27, 33 SEG28, 34 SEG29, 35 SEG30, 36 SEG31, A, K

## LCD 1602
designator LCD?
版权归属: 源创客; BOM名称: LCD 1602; 学习资源: www.ooocke.com
footprint LCD-1602 (LCD module 16*2 char)
pins: 1 VSS, 2 VDD, 3 V0, 4 RS, 5 R/W, 6 E, 7 D0, 8 D1, 9 D2, 10 D3, 11 D4, 12 D5, 13 D6, 14 D7, 15 LED-A, 16 LED-K

## OLED 1.3-12864_7pin
designator OLED?
12864 点阵屏; 版权归属: 源创客; BOM名称: 12864 点阵屏; 学习资源: www.ooocke.com
footprint OLED 1.3-12864_7pin
pins: 1 GND, 2 VCC, 3 D0, 4 D1, 5 RST, 6 DC, 7 CS

## TFT1.5_39P
designator TFT?
128*128; BOM名称: 1.5寸TFT屏; 版权归属: 源创客; 学习资源: www.ooocke.com
footprint TFT1.5-39P (长41.6mm，宽33.4mm，厚2.7mm，脚距0.75mm)
pins: 1 NC, 2 GND, 3 NC, 4 VDD, 5 NC, 6 NC, 7 NC, 8 NC, 9 RESET, 10 RS, 11 CS, 12 NC, 13 NC, 14 NC, 15 WR, 16 RD, 17 DB1, 18 DB2, 19 DB3, 20 DB4, 21 DB5, 22 DB6, 23 DB7, 24 DB8, 25 DB10, 26 DB11, 27 DB12, 28 DB13, 29 DB14, 30 DB15, 31 DB16, 32 DB17, 33 NC, 34 NC, 35 NC, 36 NC, 37 NC, 38 A, 39 K

## TXD144CF
designator TFT?
1.44寸TFT; BOM名称: 1.44寸TFT屏; 版权归属: 源创客; 学习资源: www.ooocke.com
footprint TXD144CF (16Pin, 1.44寸，128*128)
pins: 1 GND, 2 GND, 3 NC, 4 GND, 5 VDD, 6 RESET, 7 A0, 8 SCL, 9 SDA, 10 CS, 11 GND, 12 VDD, 13 LED+, 14 LED-, 15 GND, 16 GND

## TXD144CF-modules
designator TFT?
1.44寸TFT; BOM名称: 1.44寸TFT屏; 版权归属: 源创客; 学习资源: www.ooocke.com
footprint TXD144CF-modules (1.44寸TFT模块)
pins: 1 VDD, 2 +3V3, 3 GND, 4 TFT_LED, 5 TFT_RES, 6 TFT_A0, 7 TFT_CS, 8 SPI_CLK, 9 SPI_DI, 10 SPI_DO, 11 W25Qxx_CS